# EAGLE library part MCM6288C (library memory-sram)
MEMORY
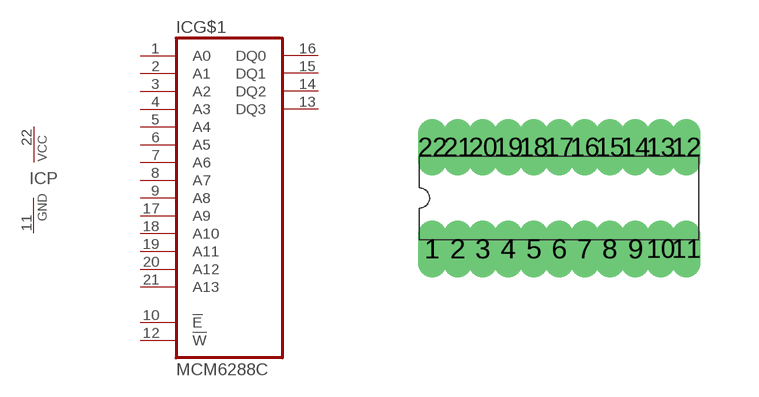
[diagram p20: symbol with the pads of DIL22; footprint DIL22]

Designator prefix IC; gates G$1=CM6288C P=PWRN

## MCM6288C  [DIL22]
1  G$1:A0  in
2  G$1:A1  in
3  G$1:A2  in
4  G$1:A3  in
5  G$1:A4  in
6  G$1:A5  in
7  G$1:A6  in
8  G$1:A7  in
9  G$1:A8  in
10  G$1:!E  in
11  P:GND  pwr
12  G$1:!W  in
13  G$1:DQ3
14  G$1:DQ2
15  G$1:DQ1
16  G$1:DQ0
17  G$1:A9  in
18  G$1:A10  in
19  G$1:A11  in
20  G$1:A12  in
21  G$1:A13  in
22  P:VCC  pwr

## Footprint DIL22 (pad centres in mm)
Dual In Line Package
drill 0.203 long: 1 -3.175,-1.27; 2 -2.54,-1.27; 3 -1.905,-1.27; 4 -1.27,-1.27; 5 -0.635,-1.27; 6 0,-1.27; 7 0.635,-1.27; 8 1.27,-1.27; 9 1.905,-1.27; 10 2.54,-1.27; 11 3.175,-1.27; 12 3.175,1.27; 13 2.54,1.27; 14 1.905,1.27; 15 1.27,1.27; 16 0.635,1.27; 17 0,1.27; 18 -0.635,1.27; 19 -1.27,1.27; 20 -1.905,1.27; 21 -2.54,1.27; 22 -3.175,1.27